# EAGLE library part DS1307 (library dallas)
I2C Serial RTC w/56 bytes battery backed RAM
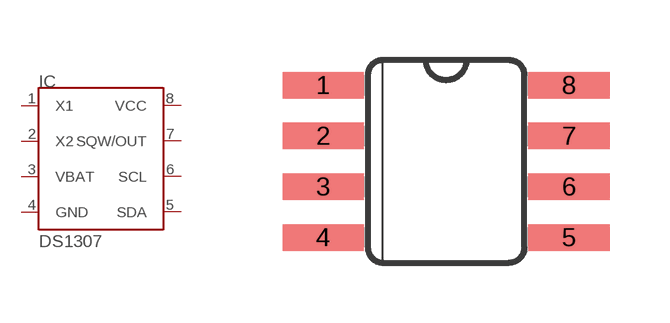
[diagram p0: symbol with the pads of SOIC-8; footprint SOIC-8]

Designator prefix IC

## DS1307  [SOIC-8]
1  X1  in
2  X2  out
3  VBAT  pwr
4  GND  pwr
5  SDA
6  SCL  in
7  SQW/OUT  out
8  VCC  pwr

## Footprint SOIC-8 (pad centres in mm)
smd 2.032 x 0.66: 1 -3.073,1.27; 2 -3.073,0; 3 -3.073,-1.27; 4 -3.073,-2.54; 5 3.073,-2.54; 6 3.073,-1.27; 7 3.073,0; 8 3.073,1.27